# EAGLE library part GF-126-0327 (library switch-cw)
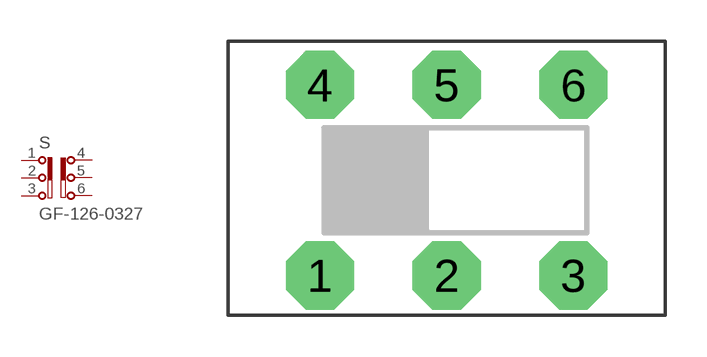
[diagram p1: symbol with the pads of GF-126-0327; footprint GF-126-0327]

Designator prefix S

## GF-126-0327 (DIGIKEY: CW174-ND)  [GF-126-0327]
1  1  pas
2  2  pas
3  3  pas
4  4  pas
5  5  pas
6  6  pas

## Footprint GF-126-0327 (pad centres in mm)
drill 1.651 octagon: 1 -4.597,-3.454; 2 0,-3.454; 3 4.597,-3.454; 4 -4.597,3.454; 5 0,3.454; 6 4.597,3.454